# EAGLE library part 66200711022 (library Wuerth_Elektronik_eiCan_08_Micro_Power_Connectors)
WR-MPC3 3.00mm Male Single Row Angled Header with Plastic Pegs, 7 Pins
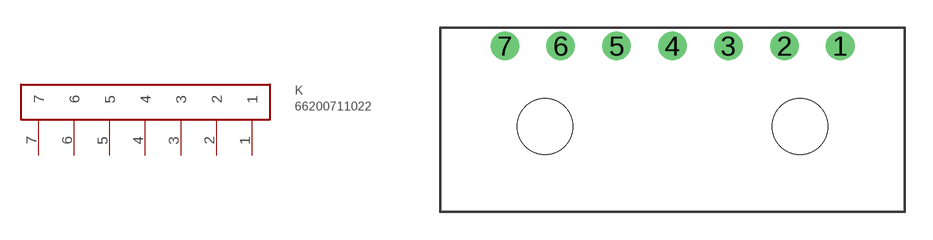
[diagram p78: symbol with the pads of 66200711022; footprint 66200711022]

Designator prefix K

## 66200711022  [66200711022]
1  1
2  2
3  3
4  4
5  5
6  6
7  7

## Footprint 66200711022 (pad centres in mm)
WR-MPC3 3.00mm Male Single Row Angled Header with Plastic Pegs, 7 Pins
drill 1.02 round: 1 1.5,0; 2 -1.5,0; 3 -4.5,0; 4 -7.5,0; 5 -10.5,0; 6 -13.5,0; 7 -16.5,0
hole 3 at -0.66,-4.32
hole 3 at -14.34,-4.32